# Altium schematic symbol library WE-SCFA.SchLib: 17 symbols
Pins are listed as number, name and electrical type; pins without a type are passive.

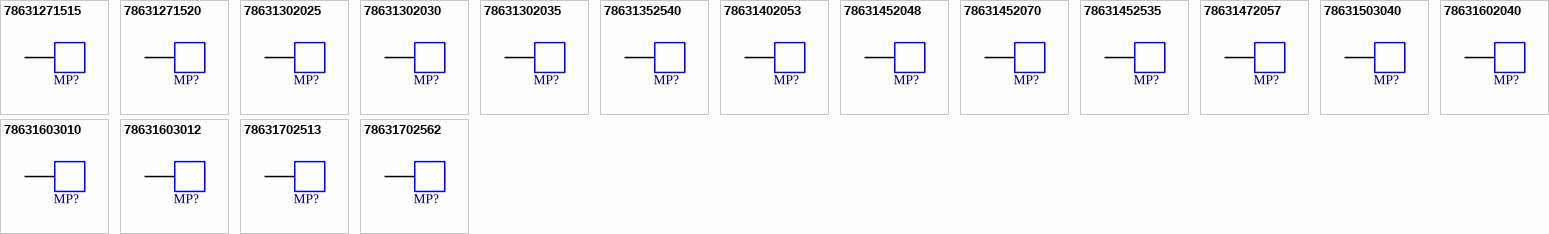
[diagram p0: symbols 78631271515 to 78631702562]

## 78631271515
designator MP?  (value not drawn)
WE-SCFA Soldered Contact Finger Automotive, L3.2W1.5H1.5mm, Working Height 1~1.2mm; Manufacturer: Wurth Elektronik; Case/Size Code: 0215; Recommended Working Height Min: 1mm; Recommended Working Height Max: 1.2mm; ComponentLink1Description: Website Link; ComponentLink1URL: https://www.we-online.com/redexpert/article/78631271515?ad; ComponentLink2Description: Datasheet Link; ComponentLink2URL: https://www.we-online.com/redexpert/spec/78631271515?ad; Manufacturer Part Number: 78631271515; Category: Assembly; Match Code: WE-SCFA; Mount: Surface Mount; Operating Temperature Max: 100°C; Operating Temperature Min: -40°C; Packaging: Tape and Reel; Length: 3.2mm; Width: 1.5mm; Height: 1.5mm; Material: Copper Beryllium (CuBe); gold-plated (AU)
footprint 78631271515
pins: 1

## 78631271520
designator MP?  (value not drawn)
WE-SCFA Soldered Contact Finger Automotive, L2.7W1.5H2mm, Working Height 1.6~1.7mm; Manufacturer: Wurth Elektronik; Case/Size Code: 0315; Recommended Working Height Min: 1.6mm; Recommended Working Height Max: 1.7mm; ComponentLink1Description: Website Link; ComponentLink1URL: https://www.we-online.com/redexpert/article/78631271520?ad; ComponentLink2Description: Datasheet Link; ComponentLink2URL: https://www.we-online.com/redexpert/spec/78631271520?ad; Manufacturer Part Number: 78631271520; Category: Assembly; Match Code: WE-SCFA; Mount: Surface Mount; Operating Temperature Max: 100°C; Operating Temperature Min: -40°C; Packaging: Tape and Reel; Length: 2.7mm; Width: 1.5mm; Height: 2mm; Material: Copper Beryllium (CuBe); gold-plated (AU)
footprint 78631271520
pins: 1

## 78631302025
designator MP?  (value not drawn)
WE-SCFA Soldered Contact Finger Automotive, L3W2H2.5mm, Working Height 2~2.2mm; Manufacturer: Wurth Elektronik; Case/Size Code: 0825; Recommended Working Height Min: 2mm; Recommended Working Height Max: 2.2mm; ComponentLink1Description: Website Link; ComponentLink1URL: https://www.we-online.com/redexpert/article/78631302025?ad; ComponentLink2Description: Datasheet Link; ComponentLink2URL: https://www.we-online.com/redexpert/spec/78631302025?ad; Manufacturer Part Number: 78631302025; Category: Assembly; Match Code: WE-SCFA; Mount: Surface Mount; Operating Temperature Max: 100°C; Operating Temperature Min: -40°C; Packaging: Tape and Reel; Length: 3mm; Width: 2mm; Height: 2.5mm; Material: Copper Beryllium (CuBe); gold-plated (AU)
footprint 78631302025
pins: 1

## 78631302030
designator MP?  (value not drawn)
WE-SCFA Soldered Contact Finger Automotive, L3.15W2H3mm, Working Height 2.5~2.7mm; Manufacturer: Wurth Elektronik; Case/Size Code: 1730; Recommended Working Height Min: 2.5mm; Recommended Working Height Max: 2.7mm; ComponentLink1Description: Website Link; ComponentLink1URL: https://www.we-online.com/redexpert/article/78631302030?ad; ComponentLink2Description: Datasheet Link; ComponentLink2URL: https://www.we-online.com/redexpert/spec/78631302030?ad; Manufacturer Part Number: 78631302030; Category: Assembly; Match Code: WE-SCFA; Mount: Surface Mount; Operating Temperature Max: 100°C; Operating Temperature Min: -40°C; Packaging: Tape and Reel; Length: 3.15mm; Width: 2mm; Height: 3mm; Material: Copper Beryllium (CuBe); gold-plated (AU)
footprint 78631302030
pins: 1

## 78631302035
designator MP?  (value not drawn)
WE-SCFA Soldered Contact Finger Automotive, L3W2H3.5mm, Working Height 3~3.2mm; Manufacturer: Wurth Elektronik; Case/Size Code: 1735; Recommended Working Height Min: 3mm; Recommended Working Height Max: 3.2mm; ComponentLink1Description: Website Link; ComponentLink1URL: https://www.we-online.com/redexpert/article/78631302035?ad; ComponentLink2Description: Datasheet Link; ComponentLink2URL: https://www.we-online.com/redexpert/spec/78631302035?ad; Manufacturer Part Number: 78631302035; Category: Assembly; Match Code: WE-SCFA; Mount: Surface Mount; Operating Temperature Max: 100°C; Operating Temperature Min: -40°C; Packaging: Tape and Reel; Length: 3mm; Width: 2mm; Height: 3.5mm; Material: Copper Beryllium (CuBe); gold-plated (AU)
footprint 78631302035
pins: 1

## 78631352540
designator MP?  (value not drawn)
WE-SCFA Soldered Contact Finger Automotive, L3.5W2.5H4mm, Working Height 3.4~3.7mm; Manufacturer: Wurth Elektronik; Case/Size Code: 1440; Recommended Working Height Min: 3.4mm; Recommended Working Height Max: 3.7mm; ComponentLink1Description: Website Link; ComponentLink1URL: https://www.we-online.com/redexpert/article/78631352540?ad; ComponentLink2Description: Datasheet Link; ComponentLink2URL: https://www.we-online.com/redexpert/spec/78631352540?ad; Manufacturer Part Number: 78631352540; Category: Assembly; Match Code: WE-SCFA; Mount: Surface Mount; Operating Temperature Max: 100°C; Operating Temperature Min: -40°C; Packaging: Tape and Reel; Length: 3.5mm; Width: 2.5mm; Height: 4mm; Material: Copper Beryllium (CuBe); gold-plated (AU)
footprint 78631352540
pins: 1

## 78631402053
designator MP?  (value not drawn)
WE-SCFA Soldered Contact Finger Automotive, L4.1W2H5.3mm, Working Height 4.4~5mm; Manufacturer: Wurth Elektronik; Case/Size Code: 0453; Recommended Working Height Min: 4.4mm; Recommended Working Height Max: 5mm; ComponentLink1Description: Website Link; ComponentLink1URL: https://www.we-online.com/redexpert/article/78631402053?ad; ComponentLink2Description: Datasheet Link; ComponentLink2URL: https://www.we-online.com/redexpert/spec/78631402053?ad; Manufacturer Part Number: 78631402053; Category: Assembly; Match Code: WE-SCFA; Mount: Surface Mount; Operating Temperature Max: 100°C; Operating Temperature Min: -40°C; Packaging: Tape and Reel; Length: 4.1mm; Width: 2mm; Height: 5.3mm; Material: Copper Beryllium (CuBe); gold-plated (AU)
footprint 78631402053
pins: 1

## 78631452048
designator MP?  (value not drawn)
WE-SCFA Soldered Contact Finger Automotive, L4.6W2H4.8mm, Working Height 4~4.5mm; Manufacturer: Wurth Elektronik; Case/Size Code: 0148; Recommended Working Height Min: 4mm; Recommended Working Height Max: 4.5mm; ComponentLink1Description: Website Link; ComponentLink1URL: https://www.we-online.com/redexpert/article/78631452048?ad; ComponentLink2Description: Datasheet Link; ComponentLink2URL: https://www.we-online.com/redexpert/spec/78631452048?ad; Manufacturer Part Number: 78631452048; Category: Assembly; Match Code: WE-SCFA; Mount: Surface Mount; Operating Temperature Max: 100°C; Operating Temperature Min: -40°C; Packaging: Tape and Reel; Length: 4.6mm; Width: 2mm; Height: 4.8mm; Material: Copper Beryllium (CuBe); gold-plated (AU)
footprint 78631452048
pins: 1

## 78631452070
designator MP?  (value not drawn)
WE-SCFA Soldered Contact Finger Automotive, L4.5W2H7mm, Working Height 6~6.7mm; Manufacturer: Wurth Elektronik; Case/Size Code: 1670; Recommended Working Height Min: 6mm; Recommended Working Height Max: 6.7mm; ComponentLink1Description: Website Link; ComponentLink1URL: https://www.we-online.com/redexpert/article/78631452070?ad; ComponentLink2Description: Datasheet Link; ComponentLink2URL: https://www.we-online.com/redexpert/spec/78631452070?ad; Manufacturer Part Number: 78631452070; Category: Assembly; Match Code: WE-SCFA; Mount: Surface Mount; Operating Temperature Max: 100°C; Operating Temperature Min: -40°C; Packaging: Tape and Reel; Length: 4.5mm; Width: 2mm; Height: 7mm; Material: Copper Beryllium (CuBe); gold-plated (AU)
footprint 78631452070
pins: 1

## 78631452535
designator MP?  (value not drawn)
WE-SCFA Soldered Contact Finger Automotive, L4.5W2.5H3.5mm, Working Height 3~3.2mm; Manufacturer: Wurth Elektronik; Case/Size Code: 0135; Recommended Working Height Min: 3mm; Recommended Working Height Max: 3.2mm; ComponentLink1Description: Website Link; ComponentLink1URL: https://www.we-online.com/redexpert/article/78631452535?ad; ComponentLink2Description: Datasheet Link; ComponentLink2URL: https://www.we-online.com/redexpert/spec/78631452535?ad; Manufacturer Part Number: 78631452535; Category: Assembly; Match Code: WE-SCFA; Mount: Surface Mount; Operating Temperature Max: 100°C; Operating Temperature Min: -40°C; Packaging: Tape and Reel; Length: 4.5mm; Width: 2.5mm; Height: 3.5mm; Material: Copper Beryllium (CuBe); gold-plated (AU)
footprint 78631452535
pins: 1

## 78631472057
designator MP?  (value not drawn)
WE-SCFA Soldered Contact Finger Automotive, L4.7W2H5.7mm, Working Height 4.6~5.4mm; Manufacturer: Wurth Elektronik; Case/Size Code: 0557; Recommended Working Height Min: 4.6mm; Recommended Working Height Max: 5.4mm; ComponentLink1Description: Website Link; ComponentLink1URL: https://www.we-online.com/redexpert/article/78631472057?ad; ComponentLink2Description: Datasheet Link; ComponentLink2URL: https://www.we-online.com/redexpert/spec/78631472057?ad; Manufacturer Part Number: 78631472057; Category: Assembly; Match Code: WE-SCFA; Mount: Surface Mount; Operating Temperature Max: 100°C; Operating Temperature Min: -40°C; Packaging: Tape and Reel; Length: 4.7mm; Width: 2mm; Height: 5.7mm; Material: Copper Beryllium (CuBe); gold-plated (AU)
footprint 78631472057
pins: 1

## 78631503040
designator MP?  (value not drawn)
WE-SCFA Soldered Contact Finger Automotive, L5W3H4mm, Working Height 2.5~3.7mm; Manufacturer: Wurth Elektronik; Case/Size Code: 2140; Recommended Working Height Min: 2.5mm; Recommended Working Height Max: 3.7mm; ComponentLink1Description: Website Link; ComponentLink1URL: https://www.we-online.com/redexpert/article/78631503040?ad; ComponentLink2Description: Datasheet Link; ComponentLink2URL: https://www.we-online.com/redexpert/spec/78631503040?ad; Manufacturer Part Number: 78631503040; Category: Assembly; Match Code: WE-SCFA; Mount: Surface Mount; Operating Temperature Max: 100°C; Operating Temperature Min: -40°C; Packaging: Tape and Reel; Length: 5mm; Width: 3mm; Height: 4mm; Material: Copper Beryllium (CuBe); gold-plated (AU)
footprint 78631503040
pins: 1

## 78631602040
designator MP?  (value not drawn)
WE-SCFA Soldered Contact Finger Automotive, L6W2H4mm, Working Height 5~5.7mm; Manufacturer: Wurth Elektronik; Case/Size Code: 2240; Recommended Working Height Min: 5mm; Recommended Working Height Max: 5.7mm; ComponentLink1Description: Website Link; ComponentLink1URL: https://www.we-online.com/redexpert/article/78631602040?ad; ComponentLink2Description: Datasheet Link; ComponentLink2URL: https://www.we-online.com/redexpert/spec/78631602040?ad; Manufacturer Part Number: 78631602040; Category: Assembly; Match Code: WE-SCFA; Mount: Surface Mount; Operating Temperature Max: 100°C; Operating Temperature Min: -40°C; Packaging: Tape and Reel; Length: 6mm; Width: 2mm; Height: 4mm; Material: Copper Beryllium (CuBe); gold-plated (AU)
footprint 78631602040
pins: 1

## 78631603010
designator MP?  (value not drawn)
WE-SCFA Soldered Contact Finger Automotive, L6W3H10mm, Working Height 8.3~9.7mm; Manufacturer: Wurth Elektronik; Case/Size Code: 0610; Recommended Working Height Min: 8.3mm; Recommended Working Height Max: 9.7mm; ComponentLink1Description: Website Link; ComponentLink1URL: https://www.we-online.com/redexpert/article/78631603010?ad; ComponentLink2Description: Datasheet Link; ComponentLink2URL: https://www.we-online.com/redexpert/spec/78631603010?ad; Manufacturer Part Number: 78631603010; Category: Assembly; Match Code: WE-SCFA; Mount: Surface Mount; Operating Temperature Max: 100°C; Operating Temperature Min: -40°C; Packaging: Tape and Reel; Length: 6mm; Width: 3mm; Height: 10mm; Material: Copper Beryllium (CuBe); gold-plated (AU)
footprint 78631603010
pins: 1

## 78631603012
designator MP?  (value not drawn)
WE-SCFA Soldered Contact Finger Automotive, L6W3H12mm, Working Height 8~11.5mm; Manufacturer: Wurth Elektronik; Case/Size Code: 0612; Recommended Working Height Min: 8mm; Recommended Working Height Max: 11.5mm; ComponentLink1Description: Website Link; ComponentLink1URL: https://www.we-online.com/redexpert/article/78631603012?ad; ComponentLink2Description: Datasheet Link; ComponentLink2URL: https://www.we-online.com/redexpert/spec/78631603012?ad; Manufacturer Part Number: 78631603012; Category: Assembly; Match Code: WE-SCFA; Mount: Surface Mount; Operating Temperature Max: 100°C; Operating Temperature Min: -40°C; Packaging: Tape and Reel; Length: 6mm; Width: 3mm; Height: 12mm; Material: Copper Beryllium (CuBe); gold-plated (AU)
footprint 78631603012
pins: 1

## 78631702513
designator MP?  (value not drawn)
WE-SCFA Soldered Contact Finger Automotive, L7W2.5H13mm, Working Height 10~12.5mm; Manufacturer: Wurth Elektronik; Case/Size Code: 1613; Recommended Working Height Min: 10mm; Recommended Working Height Max: 12.5mm; ComponentLink1Description: Website Link; ComponentLink1URL: https://www.we-online.com/redexpert/article/78631702513?ad; ComponentLink2Description: Datasheet Link; ComponentLink2URL: https://www.we-online.com/redexpert/spec/78631702513?ad; Manufacturer Part Number: 78631702513; Category: Assembly; Match Code: WE-SCFA; Mount: Surface Mount; Operating Temperature Max: 100°C; Operating Temperature Min: -40°C; Packaging: Tape and Reel; Length: 7mm; Width: 2.5mm; Height: 13mm; Material: Copper Beryllium (CuBe); gold-plated (AU)
footprint 78631702513
pins: 1

## 78631702562
designator MP?  (value not drawn)
WE-SCFA Soldered Contact Finger Automotive, L7.15W2.5H6.2mm, Working Height 5~5.9mm; Manufacturer: Wurth Elektronik; Case/Size Code: 1562; Recommended Working Height Min: 5mm; Recommended Working Height Max: 5.9mm; ComponentLink1Description: Website Link; ComponentLink1URL: https://www.we-online.com/redexpert/article/78631702562?ad; ComponentLink2Description: Datasheet Link; ComponentLink2URL: https://www.we-online.com/redexpert/spec/78631702562?ad; Manufacturer Part Number: 78631702562; Category: Assembly; Match Code: WE-SCFA; Mount: Surface Mount; Operating Temperature Max: 100°C; Operating Temperature Min: -40°C; Packaging: Tape and Reel; Length: 7.15mm; Width: 2.5mm; Height: 6.2mm; Material: Copper Beryllium (CuBe); gold-plated (AU)
footprint 78631702562
pins: 1